# Altium footprint library 20-Pcblib_Moulde.PcbLib: 7 footprints
Each footprint in its own frame and in the unit in brackets; x right, y up, seen from the top. Pads: shape width x height; smd on the part's side, far side on the other; paste and mask are expansions set on the pad; w line width, h text height; cw(c..) or ccw(c..) is an arc to the next point about the centre after c.
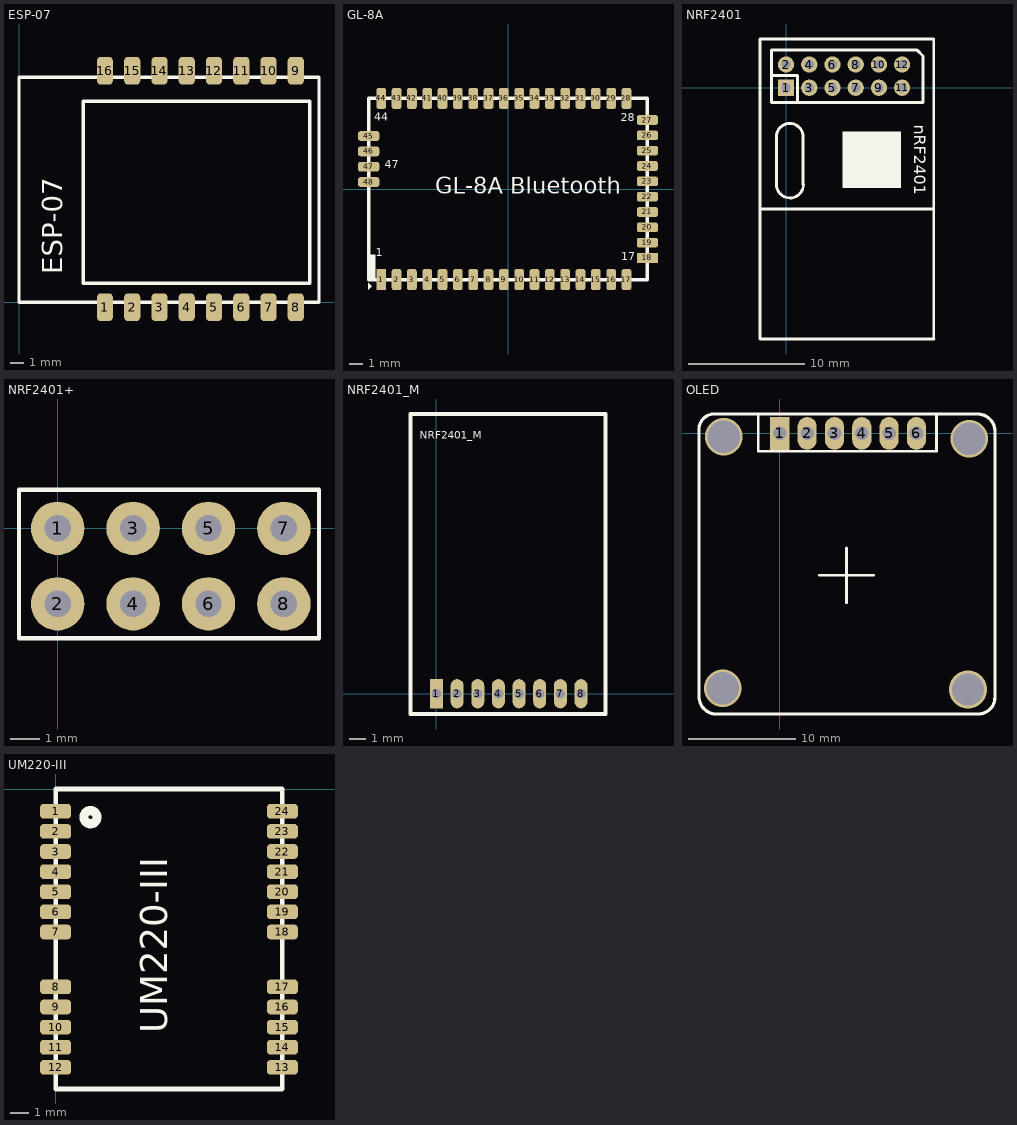
[diagram p0: the footprints below, top view; thin cyan lines are the x and y axes]

## ESP-07 [mil]
height 10
pads (16):
  rrect50% 47x80 smd: 1(248.03,-15) 2(326.77,-15) 3(405.51,-15) 4(484.25,-15) 5(562.99,-15) 6(641.73,-15) 7(720.47,-15) 8(799.21,-15) 9(799.21,668) 10(720.47,668) 11(641.73,668) 12(562.99,668) 13(484.25,668) 14(405.51,668) 15(326.77,668) 16(248.03,668)
Top Overlay:
  lines w10: 560,0 600,0 ; 835,55 185,55 185,580 840,580 840,55 ; 0,0 866.14,0 866.14,649.61 0,649.61 0,0
  text "ESP-07" at 145,80 h100
3D body: height 88.7, standoff 1.83, extent -75,20 869.88,649.92

## GL-8A [mm]
height 1
pads (48):
  rect 0.7x1.524 smd: 1(-9.1,-6.5)
  rrect50% 0.7x1.524 smd: 2(-8,-6.5) 3(-6.9,-6.5) 4(-5.8,-6.5) 5(-4.7,-6.5) 6(-3.6,-6.5) 7(-2.5,-6.5) 8(-1.4,-6.5) 9(-0.3,-6.5) 10(0.8,-6.5) 11(1.9,-6.5) 12(3,-6.5) 13(4.1,-6.5) 14(5.2,-6.5) 15(6.3,-6.5) 16(7.4,-6.5) 17(8.5,-6.5) 28(8.5,6.5) 29(7.4,6.5) 30(6.3,6.5) 31(5.2,6.5) 32(4.1,6.5) 33(3,6.5) 34(1.9,6.5) 35(0.8,6.5) 36(-0.3,6.5) 37(-1.4,6.5) 38(-2.5,6.5) 39(-3.6,6.5) 40(-4.7,6.5) 41(-5.8,6.5) 42(-6.9,6.5) 43(-8,6.5) 44(-9.1,6.5)
  rect 1.524x0.7 smd: 18(10,-4.95)
  rrect50% 1.524x0.7 smd: 19(10,-3.85) 20(10,-2.75) 21(10,-1.65) 22(10,-0.55) 23(10,0.55) 24(10,1.65) 25(10,2.75) 26(10,3.85) 27(10,4.95) 45(-10,3.8) 46(-10,2.7) 47(-10,1.6) 48(-10,0.5)
Top Overlay:
  region: -10.102,-4.699 -10.102,-6.606 -9.525,-6.606 -9.525,-4.699
  region: -10.033,-6.731 -9.779,-6.985 -10.033,-7.239
  lines w0.254: -10,-6.5 10,-6.5 10,6.5 -10,6.5 -10,-6.5
  text "GL-8A Bluetooth" at -5.207,-0.737 h2
  text "47" at -8.865,1.27 h1
  text "44" at -9.601,4.699 h1
  text "28" at 8.103,4.648 h1
  text "1" at -9.5,-5.029 h1
  text "17" at 8.128,-5.334 h1

## NRF2401 [mm]
pads (12):
  rect 1.4x1.4 hole 0.8: 1(0,0)
  round 1.4 hole 0.8: 2(0,2) 3(2,0) 4(2,2) 5(4,0) 6(4,2) 7(6,0) 8(6,2) 9(8,0) 10(8,2) 11(10,0) 12(10,2)
Top Overlay:
  rectangle: 4.85,-8.625 9.9,-3.75
  lines w0.254: -2.25,-10.45 12.675,-10.45 12.725,-10.4 ; -1.27,1.045 0.995,1.045 0.995,-1.27 ; -0.843,-4.235 cw(c0.316,-4.239) 1.475,-4.25 1.475,-8.35 ; -0.825,-4.225 -0.825,-8.325 ccw(c0.334,-8.336) 1.493,-8.34 ; 11.25,3.27 11.255,3.27 ; 12.75,-21.65 12.725,-21.65 ; 11.255,3.27 11.8,2.725 11.8,-1.27 -1.27,-1.27 -1.27,3.27 11.255,3.27 ; 12.725,-21.65 -2.25,-21.65 -2.25,4.2 12.7,4.2 12.725,4.175 12.725,-21.65
  text "nRF2401" at 11.05,-3.175 h1.02

## NRF2401+ [mm]
pads (8):
  round 1.8 / inner round 1.524 / far side round 1.524 hole 0.889: 1(0,0) 2(0,-2.54) 3(2.54,0) 4(2.54,-2.54) 5(5.08,0) 6(5.08,-2.54) 7(7.62,0) 8(7.62,-2.54)
Top Overlay:
  lines w0.15: -1.3,-3.7 8.8,-3.7 8.8,1.3 -1.3,1.3 -1.3,-3.7

## NRF2401_M [mm]
height 0.381
pads (8):
  rect 0.8x1.8 hole 0.6 unplated: 1(0,0)
  oval 0.8x1.8 hole 0.6: 2(1.27,0) 3(2.54,0) 4(3.81,0) 5(5.08,0) 6(6.35,0) 7(7.62,0) 8(8.89,0)
Top Overlay:
  lines w0.254: -1.6,-1.25 -1.6,17.2 10.4,17.2 10.4,-1.25 -1.6,-1.25
  text "NRF2401_M" at -1.016,15.494 h0.81

## OLED [mil]
pads (6):
  rect 70x120 hole 50: 1(0,0)
  oval 70x120 hole 50: 2(100,0) 3(200,0) 4(300,0) 5(400,0) 6(500,0)
via 688.98,-937.01 diameter 137.8 hole 118.11
via -208.66,-933.07 diameter 137.8 hole 118.11
via 692.91,-19.68 diameter 137.8 hole 118.11
via -204.72,-11.81 diameter 137.8 hole 118.11
Top Overlay:
  lines w10: 144.06,-519.39 244.06,-519.39 ; 244.06,-619.39 244.06,-519.39 ; 244.06,-419.39 244.06,-519.39 ; 344.06,-519.39 244.06,-519.39 ; -78.74,-65.2 -78.74,70.87 573.19,70.87 573.19,-65.2 -78.74,-65.2
  lines w12: -295.48,-968.5 -295.48,19.68 cw(c-240.26,15.64) -236.22,70.87 724.41,70.87 cw(c724.41,7.87) 787.4,7.87 787.4,-964.57 cw(c726.74,-966.17) 728.35,-1026.83 -236.22,-1026.83 cw(c-232.75,-964.1) -295.48,-960.63

## UM220-III [mm]
height 0.254
pads (24):
  rrect50% 1.7x0.8 smd: 1(0,-1.2) 2(0,-2.3) 3(0,-3.4) 4(0,-4.5) 5(0,-5.6) 6(0,-6.7) 7(0,-7.8) 8(0,-10.8) 9(0,-11.9) 10(0,-13) 11(0,-14.1) 12(0,-15.2) 13(12.4,-15.2) 14(12.4,-14.1) 15(12.4,-13) 16(12.4,-11.9) 17(12.4,-10.8) 18(12.4,-7.8) 19(12.4,-6.7) 20(12.4,-5.6) 21(12.4,-4.5) 22(12.4,-3.4) 23(12.4,-2.3) 24(12.4,-1.2)
Top Overlay:
  circle w0.5: c1.905,-1.524 r0.359
  lines w0.254: 0,-16.383 0,0.017 12.4,0.017 12.4,-16.383 0,-16.383
  text "UM220-III" at 6.604,-13.335 h2.54